# Altium schematic symbol library LTC6992CDCB-3TRMPBF.SCHLIB: 1 symbol
Pins are listed as number, name and electrical type; pins without a type are passive.

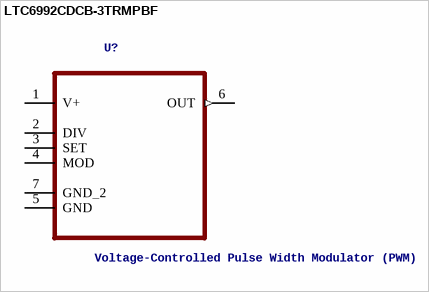
[diagram p0: symbol LTC6992CDCB-3TRMPBF]

## LTC6992CDCB-3TRMPBF
designator U?, comment Voltage-Controlled Pulse Width Modulator (PWM)
GateName_1: A; SymbolName_1: LTC6992CDCB-3TRMPBF; Description: IC, PWM, VOLT CTRL, TIMERBLOX, 6DFN; No. of Timers:1; Clock External Input:No; Frequency:1MHz; Supply Voltage Range:2.25V to 5.5V; Digital IC Case Style:DFN; No. of Pins:6; Operating Temperature Range:0°C to +70°C; SVHC:No SVHC (19-Dec-2011); Input Voltage:5.5V; Output Current:20mA; Output Voltage:5.15V; Package / Case:DFN; Resonator Case:SMD; Supply Voltage:2.25V to 5.5V; MF: Analog Devices; MP: LTC6992CDCB-3#TRMPBF; LibraryName: LTC6992CDCB-3TRMPBF; DeviceSetName: LTC6992CDCB-3TRMPBF; Digi-Key_Part_Number: LTC6992CDCB-3#TRMPBFTR-ND; Package: DFN-6 Linear Technology; Purchase-URL: https://pricing.snapeda.com/search/part/LTC6992CDCB-3#TRMPBF/?ref=eda
footprint DFN200X300X80-7N
pins: 1 V+ (power), 2 DIV, 3 SET, 4 MOD, 5 GND, 6 OUT (out), 7 GND_2